# Altium footprint library CON FLE-107.PcbLib: 1 footprints
Each footprint in its own frame and in the unit in brackets; x right, y up, seen from the top. Pads: shape width x height; smd on the part's side, far side on the other; paste and mask are expansions set on the pad; w line width, h text height; cw(c..) or ccw(c..) is an arc to the next point about the centre after c.
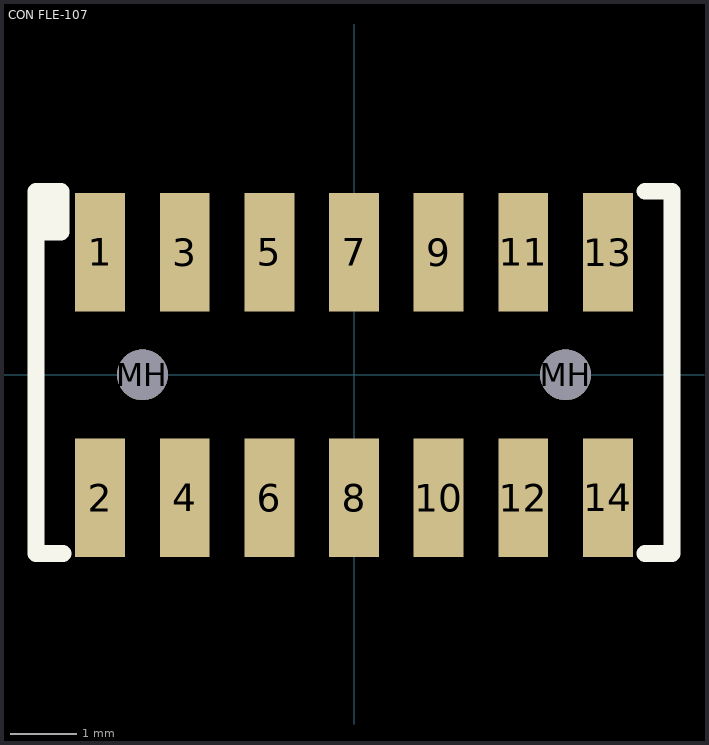
[diagram p0: the footprint, top view; thin cyan lines are the x and y axes]

## CON FLE-107 [mil] "Samtec FLE-107 Surface Mount Connector"
height 78.74
pads (16):
  rect 29.53x70 smd: 1(-150,72.5) 2(-150,-72.5) 3(-100,72.5) 4(-100,-72.5) 5(-50,72.5) 6(-50,-72.5) 7(0,72.5) 8(0,-72.5) 9(50,72.5) 10(50,-72.5) 11(100,72.5) 12(100,-72.5) 13(150,72.5) 14(150,-72.5)
  round 30 hole 30 unplated: MH(-125,0) MH(125,0)
TopOverlay:
  lines w10: -180,102.5 -180,92.5 -188,84.5 -173,84.5 -173,108.5 -188,108.5 -188,-105.5 -172,-105.5 ; 172,-105.5 188,-105.5 188,108.5 172,108.5
3D body: height 179.6, standoff 0.6, extent -177.25,-90 177.25,91